# EAGLE library part SERIAL (library F030NG)
D-Subminiatur Connector Source: Electronioc Interconnects European Edition 1998
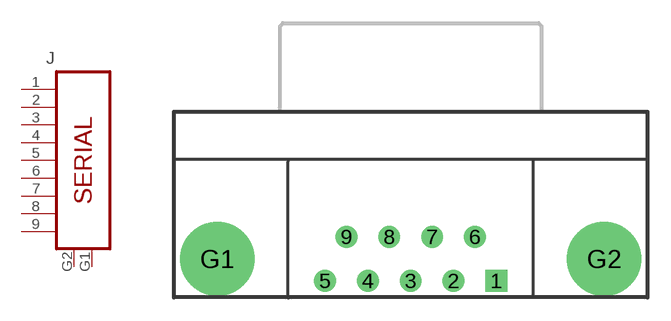
[diagram p9: symbol with the pads of DB9M; footprint DB9M]

Designator prefix J

## SERIAL-DB9 (OC_FARNELL: unknown; OC_NEWARK: unknown)  [DB9M]
1  1  pas
2  2  pas
3  3  pas
4  4  pas
5  5  pas
6  6  pas
7  7  pas
8  8  pas
9  9  pas
G1  G2  pas
G2  G1  pas

## Footprint DB9M (pad centres in mm)
THOMAS&BETTS H5M09RA29A
drill 0.9 square: 1 5.537,-1.422
drill 0.9: 2 2.769,-1.422; 3 0,-1.422; 4 -2.769,-1.422; 5 -5.537,-1.422; 6 4.153,1.422; 7 1.384,1.422; 8 -1.384,1.422; 9 -4.153,1.422
drill 3.4 pad 4.8: G1 -12.5,0; G2 12.5,0